# Altium schematic symbol library AUVic_Schematic_Library_Transistors.SchLib: 26 symbols (part 2 of 2)
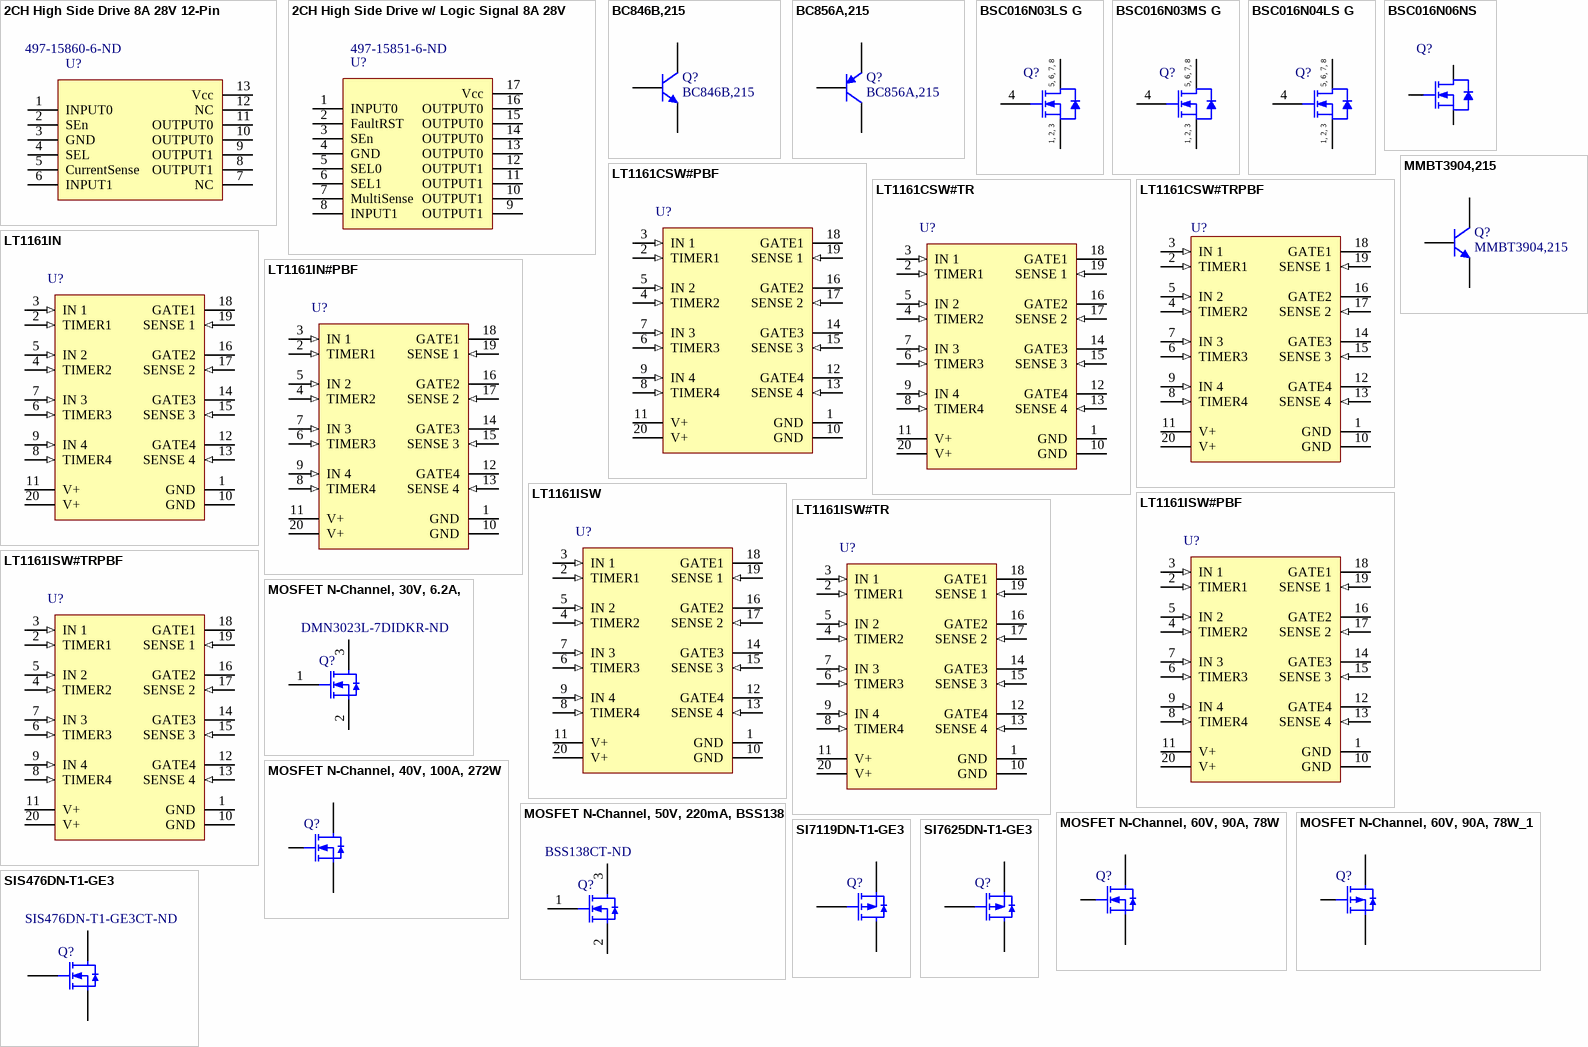
[diagram p1: symbols 2CH High Side Drive 8A 28V 12-Pin to SIS476DN-T1-GE3]

## LT1161ISW#TR
designator U?
Quad Protected High-Side MOSFET Driver, 8 to 48 V Vin, 20-pin SOIC (SW-20), -40 to 85 degC, Tape and Reel; Manufacturer: Linear Technology; PartNumber: LT1161ISW#TR; DatasheetVersion: Rev. A; PackageVersion: Jun-10; PackageReference: SW-20; PackageDescription: 20-Pin Plastic Small Outline, Body 12.80 x 7.49 mm, Pitch 1.27 mm; Supplier 1: Digi-Key; Supplier Part Number 1: LT1161ISW#TR-ND; Supplier 2: Newark; Supplier Part Number 2: 57M2272; Packing: Tape and Reel; RoHS: FALSE; Mounting Technology: Surface Mount; ComponentLink1Description: Manufacturer URL; ComponentLink1URL: http://www.linear.com/; ComponentLink2Description: Datasheet; ComponentLink2URL: http://cds.linear.com/docs/en/datasheet/1161fa.pdf; ComponentLink3Description: Package Specification; ComponentLink3URL: http://cds.linear.com/docs/en/packaging/SO_20_05-08-1620.pdf
footprint LT-SW-20_N (SOIC, 20-Leads, Body 12.8x7.49mm, Pitch 1.27mm, IPC Medium Density)
footprint LT-SW-20_L (SOIC, 20-Leads, Body 12.8x7.49mm, Pitch 1.27mm, IPC High Density)
footprint LT-SW-20_M (SOIC, 20-Leads, Body 12.8x7.49mm, Pitch 1.27mm, IPC Low Density)
pins: 1 GND (power) "The two ground pins are internally connected and must also be externally connected.", 2 TIMER1 (in) "A timing capacitor CT from each timer pin to ground sets the restart time following overcurrent detection. CT is rapidly discharged to less than 1V and then recharged by a 14uA nominal current source back to the timer (See Datasheet)", 3 IN 1 (in) "The input pins are active high and each pin activates a separate internal charge pump when switched ON. The input threshold is TTL/CMOS compatible but may be taken as high as 15V with or without the supply powered. Each (See Datasheet)", 4 TIMER2 (in) "A timing capacitor CT from each timer pin to ground sets the restart time following overcurrent detection. CT is rapidly discharged to less than 1V and then recharged by a 14uA nominal current source back to the timer (See Datasheet)", 5 IN 2 (in) "The input pins are active high and each pin activates a separate internal charge pump when switched ON. The input threshold is TTL/CMOS compatible but may be taken as high as 15V with or without the supply powered. Each (See Datasheet)", 6 TIMER3 (in) "A timing capacitor CT from each timer pin to ground sets the restart time following overcurrent detection. CT is rapidly discharged to less than 1V and then recharged by a 14uA nominal current source back to the timer (See Datasheet)", 7 IN 3 (in) "The input pins are active high and each pin activates a separate internal charge pump when switched ON. The input threshold is TTL/CMOS compatible but may be taken as high as 15V with or without the supply powered. Each (See Datasheet)", 8 TIMER4 (in) "A timing capacitor CT from each timer pin to ground sets the restart time following overcurrent detection. CT is rapidly discharged to less than 1V and then recharged by a 14uA nominal current source back to the timer (See Datasheet)", 9 IN 4 (in) "The input pins are active high and each pin activates a separate internal charge pump when switched ON. The input threshold is TTL/CMOS compatible but may be taken as high as 15V with or without the supply powered. Each (See Datasheet)", 10 GND (power) "The two ground pins are internally connected and must also be externally connected.", 11 V+ (power) "The two supply pins are internally connected and must also be externally connected. In addition to providing the operating current for the LT1161, the supply pins also serve as the Kelvin connection for the current sense (See Datasheet)", 12 GATE4 (hiz) "The gate pins drive the power MOSFET gates. When an input is ON, the corresponding gate pin is pumped approximately 12V above the supply. These pins have a relatively high impedance when above the rail (theequivalent of a (See Datasheet)", 13 SENSE 4 (in) "Each sense pin connects to the input of asupply-referenced comparator with a 65mV nominal offset. When a sense pin is taken more than 65mV below supply, the MOSFET gate for that channel is driven low and the corresponding (See Datasheet)", 14 GATE3 (hiz) "The gate pins drive the power MOSFET gates. When an input is ON, the corresponding gate pin is pumped approximately 12V above the supply. These pins have a relatively high impedance when above the rail (theequivalent of a (See Datasheet)", 15 SENSE 3 (in) "Each sense pin connects to the input of asupply-referenced comparator with a 65mV nominal offset. When a sense pin is taken more than 65mV below supply, the MOSFET gate for that channel is driven low and the corresponding (See Datasheet)", 16 GATE2 (hiz) "The gate pins drive the power MOSFET gates. When an input is ON, the corresponding gate pin is pumped approximately 12V above the supply. These pins have a relatively high impedance when above the rail (theequivalent of a (See Datasheet)", 17 SENSE 2 (in) "Each sense pin connects to the input of asupply-referenced comparator with a 65mV nominal offset. When a sense pin is taken more than 65mV below supply, the MOSFET gate for that channel is driven low and the corresponding (See Datasheet)", 18 GATE1 (hiz) "The gate pins drive the power MOSFET gates. When an input is ON, the corresponding gate pin is pumped approximately 12V above the supply. These pins have a relatively high impedance when above the rail (theequivalent of a (See Datasheet)", 19 SENSE 1 (in) "Each sense pin connects to the input of asupply-referenced comparator with a 65mV nominal offset. When a sense pin is taken more than 65mV below supply, the MOSFET gate for that channel is driven low and the corresponding (See Datasheet)", 20 V+ (power) "The two supply pins are internally connected and must also be externally connected. In addition to providing the operating current for the LT1161, the supply pins also serve as the Kelvin connection for the current sense (See Datasheet)"

## LT1161ISW#TRPBF
designator U?
Quad Protected High-Side MOSFET Driver, 8 to 48 V Vin, 20-pin SOIC (SW-20), -40 to 85 degC, Pb-Free, Tape and Reel; Manufacturer: Linear Technology; PartNumber: LT1161ISW#TRPBF; DatasheetVersion: Rev. A; PackageVersion: Jun-10; PackageReference: SW-20; PackageDescription: 20-Pin Plastic Small Outline, Body 12.80 x 7.49 mm, Pitch 1.27 mm; Supplier 1: Digi-Key; Supplier Part Number 1: LT1161ISW#TRPBF-ND; Supplier 2: Newark; Supplier Part Number 2: 57M2273; Packing: Tape and Reel; RoHS: TRUE; Mounting Technology: Surface Mount; ComponentLink1Description: Manufacturer URL; ComponentLink1URL: http://www.linear.com/; ComponentLink2Description: Datasheet; ComponentLink2URL: http://cds.linear.com/docs/en/datasheet/1161fa.pdf; ComponentLink3Description: Package Specification; ComponentLink3URL: http://cds.linear.com/docs/en/packaging/SO_20_05-08-1620.pdf
footprint LT-SW-20_N (SOIC, 20-Leads, Body 12.8x7.49mm, Pitch 1.27mm, IPC Medium Density)
footprint LT-SW-20_L (SOIC, 20-Leads, Body 12.8x7.49mm, Pitch 1.27mm, IPC High Density)
footprint LT-SW-20_M (SOIC, 20-Leads, Body 12.8x7.49mm, Pitch 1.27mm, IPC Low Density)
pins: 1 GND (power) "The two ground pins are internally connected and must also be externally connected.", 2 TIMER1 (in) "A timing capacitor CT from each timer pin to ground sets the restart time following overcurrent detection. CT is rapidly discharged to less than 1V and then recharged by a 14uA nominal current source back to the timer (See Datasheet)", 3 IN 1 (in) "The input pins are active high and each pin activates a separate internal charge pump when switched ON. The input threshold is TTL/CMOS compatible but may be taken as high as 15V with or without the supply powered. Each (See Datasheet)", 4 TIMER2 (in) "A timing capacitor CT from each timer pin to ground sets the restart time following overcurrent detection. CT is rapidly discharged to less than 1V and then recharged by a 14uA nominal current source back to the timer (See Datasheet)", 5 IN 2 (in) "The input pins are active high and each pin activates a separate internal charge pump when switched ON. The input threshold is TTL/CMOS compatible but may be taken as high as 15V with or without the supply powered. Each (See Datasheet)", 6 TIMER3 (in) "A timing capacitor CT from each timer pin to ground sets the restart time following overcurrent detection. CT is rapidly discharged to less than 1V and then recharged by a 14uA nominal current source back to the timer (See Datasheet)", 7 IN 3 (in) "The input pins are active high and each pin activates a separate internal charge pump when switched ON. The input threshold is TTL/CMOS compatible but may be taken as high as 15V with or without the supply powered. Each (See Datasheet)", 8 TIMER4 (in) "A timing capacitor CT from each timer pin to ground sets the restart time following overcurrent detection. CT is rapidly discharged to less than 1V and then recharged by a 14uA nominal current source back to the timer (See Datasheet)", 9 IN 4 (in) "The input pins are active high and each pin activates a separate internal charge pump when switched ON. The input threshold is TTL/CMOS compatible but may be taken as high as 15V with or without the supply powered. Each (See Datasheet)", 10 GND (power) "The two ground pins are internally connected and must also be externally connected.", 11 V+ (power) "The two supply pins are internally connected and must also be externally connected. In addition to providing the operating current for the LT1161, the supply pins also serve as the Kelvin connection for the current sense (See Datasheet)", 12 GATE4 (hiz) "The gate pins drive the power MOSFET gates. When an input is ON, the corresponding gate pin is pumped approximately 12V above the supply. These pins have a relatively high impedance when above the rail (theequivalent of a (See Datasheet)", 13 SENSE 4 (in) "Each sense pin connects to the input of asupply-referenced comparator with a 65mV nominal offset. When a sense pin is taken more than 65mV below supply, the MOSFET gate for that channel is driven low and the corresponding (See Datasheet)", 14 GATE3 (hiz) "The gate pins drive the power MOSFET gates. When an input is ON, the corresponding gate pin is pumped approximately 12V above the supply. These pins have a relatively high impedance when above the rail (theequivalent of a (See Datasheet)", 15 SENSE 3 (in) "Each sense pin connects to the input of asupply-referenced comparator with a 65mV nominal offset. When a sense pin is taken more than 65mV below supply, the MOSFET gate for that channel is driven low and the corresponding (See Datasheet)", 16 GATE2 (hiz) "The gate pins drive the power MOSFET gates. When an input is ON, the corresponding gate pin is pumped approximately 12V above the supply. These pins have a relatively high impedance when above the rail (theequivalent of a (See Datasheet)", 17 SENSE 2 (in) "Each sense pin connects to the input of asupply-referenced comparator with a 65mV nominal offset. When a sense pin is taken more than 65mV below supply, the MOSFET gate for that channel is driven low and the corresponding (See Datasheet)", 18 GATE1 (hiz) "The gate pins drive the power MOSFET gates. When an input is ON, the corresponding gate pin is pumped approximately 12V above the supply. These pins have a relatively high impedance when above the rail (theequivalent of a (See Datasheet)", 19 SENSE 1 (in) "Each sense pin connects to the input of asupply-referenced comparator with a 65mV nominal offset. When a sense pin is taken more than 65mV below supply, the MOSFET gate for that channel is driven low and the corresponding (See Datasheet)", 20 V+ (power) "The two supply pins are internally connected and must also be externally connected. In addition to providing the operating current for the LT1161, the supply pins also serve as the Kelvin connection for the current sense (See Datasheet)"

## MMBT3904,215
designator Q?
NPN General Purpose Amplifier; Published: 8-Jun-2000; LatestRevisionDate: 09-Sep-2016; DatasheetVersion: 1997; PackageReference: TO-92A; Publisher: Andy Bates; Supplier 1: Digi-Key; Supplier Part Number 1: 568-4510-1-ND
footprint SOT-23
pins: 1 B, 2 E, 3 C

## MOSFET N-Channel, 30V, 6.2A,
designator Q?  Supplier Part Number 1: DMN3023L-7DIDKR-ND  (hidden comment: *)
N-Channel 30V 6.2A (Ta) 900mW (Ta) Surface Mount SOT-23; Supplier 1: Digi-Key; Created By: Poorna Chander Kalidas; ComponentLink1Description: Digi-Key; ComponentLink1URL: https://www.digikey.ca/product-detail/en/diodes-incorporated/DMN3023L-7/DMN3023L-7DICT-ND/5453155
footprint SOT-23
pins: 1 Gate, 2 Source, 3 Drain

## MOSFET N-Channel, 40V, 100A, 272W
designator Q?  (value not drawn)
MOSFET N-Channel, 40V, 100A, 272W, Enh-Mode; MFG: NXP Semiconductors; MFG#: PSMN1R8-40YLC,115; Reviewed_By: Ashwin Sira; Latest_Revision_Note: Attached footprint; Created By: Ashwin Sira; Publisher: AUVic; Reviewed_Date: 2016_04_26; Latest_Revision_By: Ashwin Sira; Latest_Revision_Date: 2016_04_26; Supplier 1: Digi-Key; Supplier Part Number 1: 568-10156-1-ND
footprint LFPAK-PowerSO8
pins: 1 Source (power), 2 Source (power), 3 Source (power), 4 Gate (power), 5 Drain (power)

## MOSFET N-Channel, 50V, 220mA, BSS138
designator Q?  Supplier Part Number 1: BSS138CT-ND  (hidden comment: *)
BSS138; Created By: Poorna Chander Kalidas; ComponentLink1Description: Digi-Key; ComponentLink1URL: https://www.digikey.ca/product-detail/en/diodes-incorporated/DMN3023L-7/DMN3023L-7DICT-ND/5453155; Supplier 1: Digi-Key
footprint SOT-23
pins: 1 Gate, 2 Source, 3 Drain

## MOSFET N-Channel, 60V, 90A, 78W
designator Q?  (value not drawn)
MOSFET N-Channel, 60V, 90A, 78W, Enh-Mode; MFG: Infineon; MFG#: BSB028N06NN3 G; Reviewed_By: Ashwin Sira; Latest_Revision_Note: Attached footprint; Created By: Ashwin Sira; Publisher: AUVic; Reviewed_Date: 2016_03_27; Latest_Revision_By: Ashwin Sira; Latest_Revision_Date: 2016-03-27
footprint MG-WDSON-2 (CanPAK MG-WDSON-2 MN)
pins: 1 Drain (power), 2 Gate (power), 3 Source (power)

## MOSFET N-Channel, 60V, 90A, 78W_1
designator Q?  (value not drawn)
MOSFET N-Channel, 60V, 90A, 78W, Enh-Mode; MFG: Infineon; MFG#: BSB028N06NN3 G; Reviewed_By: Ashwin Sira; Latest_Revision_Note: Attached footprint; Created By: Ashwin Sira; Publisher: AUVic; Reviewed_Date: 2016_03_27; Latest_Revision_By: Ashwin Sira; Latest_Revision_Date: 2016-03-27
footprint MG-WDSON-2 (CanPAK MG-WDSON-2 MN)
pins: 1 Drain (power), 2 Gate (power), 3 Source (power)

## SI7119DN-T1-GE3
designator Q?  (value not drawn)
P-Channel 200V 3.8A (Tc) 3.7W (Ta), 52W (Tc) Surface Mount PowerPAK® 1212-8; Created By: Poorna Chander Kalidas; ComponentLink1Description: Digi-Key; ComponentLink1URL: https://www.digikey.ca/product-detail/en/diodes-incorporated/DMN3023L-7/DMN3023L-7DICT-ND/5453155; Supplier 1: Digi-Key; Supplier Part Number 1: SI7119DN-T1-GE3DKR-ND
footprint PowerPAK 1212-8 (PowerPAK MOSFET Package)
pins: 1 Source, 2 Source, 3 Source, 4 Gate, 5 Drain, 6 Drain, 7 Drain, 8 Drain, 9 Drain

## SI7625DN-T1-GE3
designator Q?  (value not drawn)
P-Channel 30V 35A (Tc) 3.7W (Ta), 52W (Tc) Surface Mount PowerPAK® 1212-8; Created By: Poorna Chander Kalidas; Supplier 1: Digi-Key; Supplier Part Number 1: SI7625DN-T1-GE3CT-ND
footprint PowerPAK 1212-8 (PowerPAK MOSFET Package)
pins: 1 Source, 2 Source, 3 Source, 4 Gate, 5 Drain, 6 Drain, 7 Drain, 8 Drain, 9 Drain

## SIS476DN-T1-GE3
designator Q?  Supplier Part Number 1: SIS476DN-T1-GE3CT-ND  (hidden comment: *)
N-Channel 30V 40A (Tc) 3.7W (Ta), 52W (Tc) Surface Mount PowerPAK® 1212-8; Created By: Poorna Chander Kalidas; ComponentLink1Description: Digi-Key; ComponentLink1URL: https://www.digikey.ca/product-detail/en/diodes-incorporated/DMN3023L-7/DMN3023L-7DICT-ND/5453155; Supplier 1: Digi-Key
footprint PowerPAK 1212-8 (PowerPAK MOSFET Package)
pins: 1 Source, 2 Source, 3 Source, 4 Gate, 5 Drain, 6 Drain, 7 Drain, 8 Drain, 9 Drain